# Altium footprint library Connector_PinSocket_1.27mm.PcbLib: 246 footprints (part 2 of 16)
Each footprint in its own frame and in the unit in brackets; x right, y up, seen from the top. Pads: shape width x height; smd on the part's side, far side on the other; paste and mask are expansions set on the pad; w line width, h text height; cw(c..) or ccw(c..) is an arc to the next point about the centre after c.
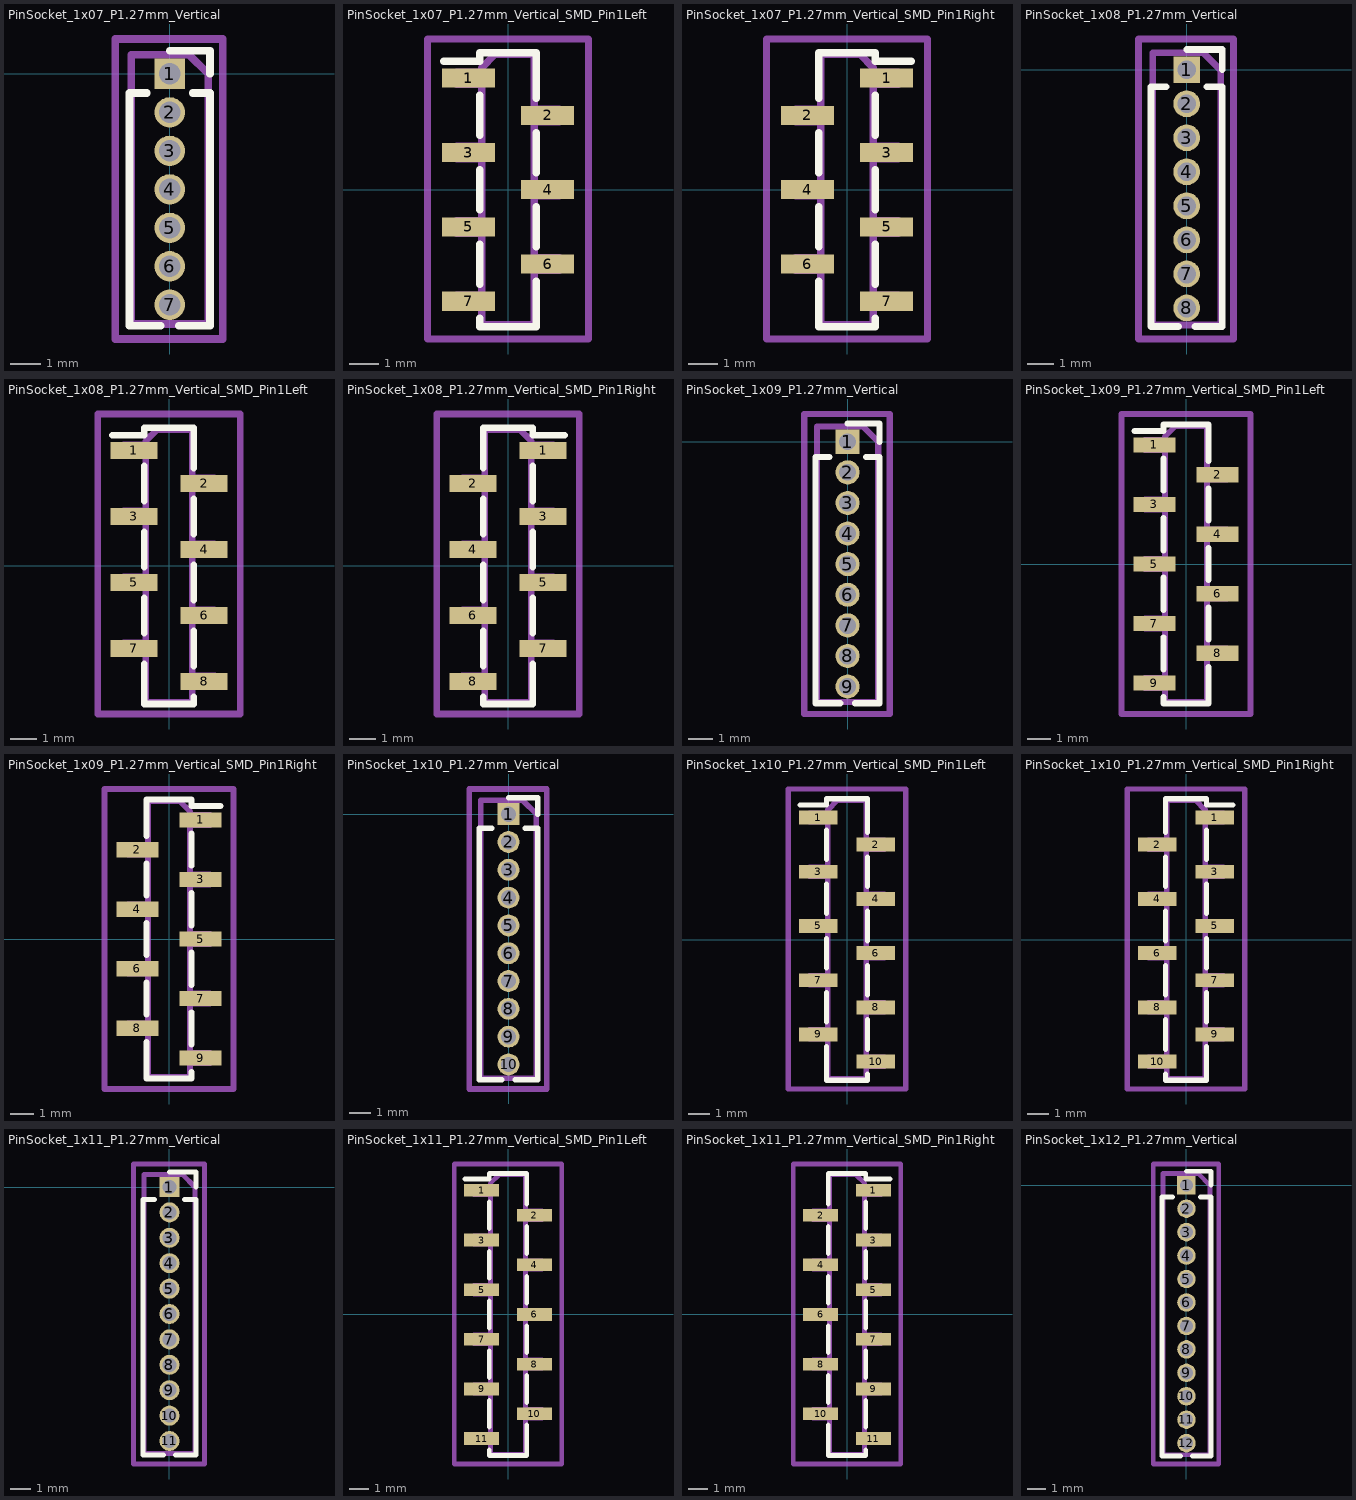
[diagram p1: the footprints below, top view; thin cyan lines are the x and y axes]

## PinSocket_1x07_P1.27mm_Vertical [mm]
pads (7):
  rect 1x1 hole 0.7: 1(0,0)
  round 1 hole 0.7: 2(0,-1.27) 3(0,-2.54) 4(0,-3.81) 5(0,-5.08) 6(0,-6.35) 7(0,-7.62)
F.SilkS:
  lines w0.254: -0.76,-0.635 -1.33,-0.635 -1.33,-8.315 -0.308,-8.315 ; 0,0.76 1.33,0.76 1.33,0 ; 0.308,-8.315 1.33,-8.315 1.33,-0.635 0.76,-0.635
Top Assembly:
  lines w0.254: -1.27,-8.255 1.27,-8.255 1.27,0 0.635,0.635 -1.27,0.635 -1.27,-8.255
  text "'.Designator'" at 0.84,-7.857 h1
Top Courtyard:
  lines w0.254: -1.8,-8.75 1.75,-8.75 1.75,1.15 -1.8,1.15 -1.8,-8.75
Top Designator:
  text ".Designator" at -7.643,-4.308 h1.52

## PinSocket_1x07_P1.27mm_Vertical_SMD_Pin1Left [mm]
pads (7):
  rect 1.8x0.65 smd: 1(-1.35,3.81) 2(1.35,2.54) 3(-1.35,1.27) 4(1.35,0) 5(-1.35,-1.27) 6(1.35,-2.54) 7(-1.35,-3.81)
F.SilkS:
  lines w0.254: -2.19,4.395 -0.96,4.395 -0.96,4.68 0.96,4.68 0.96,3.125 ; -0.96,-4.395 -0.96,-4.68 0.96,-4.68 0.96,-3.125 ; -0.96,-3.225 -0.96,-1.855 ; -0.96,-0.685 -0.96,0.685 ; -0.96,1.855 -0.96,3.225 ; 0.96,-1.955 0.96,-0.585 ; 0.96,0.585 0.96,1.955
Top Assembly:
  lines w0.254: -0.9,-4.02 -1.75,-4.02 -1.75,-3.6 -0.9,-3.6 ; -0.9,-1.48 -1.75,-1.48 -1.75,-1.06 -0.9,-1.06 ; -0.9,1.06 -1.75,1.06 -1.75,1.48 -0.9,1.48 ; -0.9,3.6 -1.75,3.6 -1.75,4.02 -0.9,4.02 ; 0.9,-2.75 1.75,-2.75 1.75,-2.33 0.9,-2.33 ; 0.9,-0.21 1.75,-0.21 1.75,0.21 0.9,0.21 ; 0.9,2.33 1.75,2.33 1.75,2.75 0.9,2.75 ; -0.9,-4.62 0.9,-4.62 0.9,4.62 -0.45,4.62 -0.9,4.17 -0.9,-4.62
  text "'.Designator'" at 0.84,-4.047 h1
Top Courtyard:
  lines w0.254: -2.75,-5.1 2.75,-5.1 2.75,5.15 -2.75,5.15 -2.75,-5.1
Top Designator:
  text ".Designator" at -7.618,-0.483 h1.52

## PinSocket_1x07_P1.27mm_Vertical_SMD_Pin1Right [mm]
pads (7):
  rect 1.8x0.65 smd: 1(1.35,3.81) 2(-1.35,2.54) 3(1.35,1.27) 4(-1.35,0) 5(1.35,-1.27) 6(-1.35,-2.54) 7(1.35,-3.81)
F.SilkS:
  lines w0.254: -0.96,-3.125 -0.96,-4.68 0.96,-4.68 0.96,-4.395 ; -0.96,-1.955 -0.96,-0.585 ; -0.96,0.585 -0.96,1.955 ; -0.96,3.125 -0.96,4.68 0.96,4.68 0.96,4.395 2.19,4.395 ; 0.96,-3.225 0.96,-1.855 ; 0.96,-0.685 0.96,0.685 ; 0.96,1.855 0.96,3.225
Top Assembly:
  lines w0.254: -0.9,-2.75 -1.75,-2.75 -1.75,-2.33 -0.9,-2.33 ; -0.9,-0.21 -1.75,-0.21 -1.75,0.21 -0.9,0.21 ; -0.9,2.33 -1.75,2.33 -1.75,2.75 -0.9,2.75 ; 0.9,-4.02 1.75,-4.02 1.75,-3.6 0.9,-3.6 ; 0.9,-1.48 1.75,-1.48 1.75,-1.06 0.9,-1.06 ; 0.9,1.06 1.75,1.06 1.75,1.48 0.9,1.48 ; 0.9,3.6 1.75,3.6 1.75,4.02 0.9,4.02 ; -0.9,-4.62 0.9,-4.62 0.9,4.17 0.45,4.62 -0.9,4.62 -0.9,-4.62
  text "'.Designator'" at 0.84,-4.047 h1
Top Courtyard:
  lines w0.254: -2.75,-5.1 2.75,-5.1 2.75,5.15 -2.75,5.15 -2.75,-5.1
Top Designator:
  text ".Designator" at -7.618,-0.483 h1.52

## PinSocket_1x08_P1.27mm_Vertical [mm]
pads (8):
  rect 1x1 hole 0.7: 1(0,0)
  round 1 hole 0.7: 2(0,-1.27) 3(0,-2.54) 4(0,-3.81) 5(0,-5.08) 6(0,-6.35) 7(0,-7.62) 8(0,-8.89)
F.SilkS:
  lines w0.254: -0.76,-0.635 -1.33,-0.635 -1.33,-9.585 -0.308,-9.585 ; 0,0.76 1.33,0.76 1.33,0 ; 0.308,-9.585 1.33,-9.585 1.33,-0.635 0.76,-0.635
Top Assembly:
  lines w0.254: -1.27,-9.525 1.27,-9.525 1.27,0 0.635,0.635 -1.27,0.635 -1.27,-9.525
  text "'.Designator'" at 0.84,-8.492 h1
Top Courtyard:
  lines w0.254: -1.8,-10.05 1.75,-10.05 1.75,1.15 -1.8,1.15 -1.8,-10.05
Top Designator:
  text ".Designator" at -7.643,-4.958 h1.52

## PinSocket_1x08_P1.27mm_Vertical_SMD_Pin1Left [mm]
pads (8):
  rect 1.8x0.65 smd: 1(-1.35,4.445) 2(1.35,3.175) 3(-1.35,1.905) 4(1.35,0.635) 5(-1.35,-0.635) 6(1.35,-1.905) 7(-1.35,-3.175) 8(1.35,-4.445)
F.SilkS:
  lines w0.254: -2.19,5.03 -0.96,5.03 -0.96,5.315 0.96,5.315 0.96,3.76 ; -0.96,-3.76 -0.96,-5.315 0.96,-5.315 0.96,-5.03 ; -0.96,-2.59 -0.96,-1.22 ; -0.96,-0.05 -0.96,1.32 ; -0.96,2.49 -0.96,3.86 ; 0.96,-3.86 0.96,-2.49 ; 0.96,-1.32 0.96,0.05 ; 0.96,1.22 0.96,2.59
Top Assembly:
  lines w0.254: -0.9,-3.385 -1.75,-3.385 -1.75,-2.965 -0.9,-2.965 ; -0.9,-0.845 -1.75,-0.845 -1.75,-0.425 -0.9,-0.425 ; -0.9,1.695 -1.75,1.695 -1.75,2.115 -0.9,2.115 ; -0.9,4.235 -1.75,4.235 -1.75,4.655 -0.9,4.655 ; 0.9,-4.655 1.75,-4.655 1.75,-4.235 0.9,-4.235 ; 0.9,-2.115 1.75,-2.115 1.75,-1.695 0.9,-1.695 ; 0.9,0.425 1.75,0.425 1.75,0.845 0.9,0.845 ; 0.9,2.965 1.75,2.965 1.75,3.385 0.9,3.385 ; -0.9,-5.255 0.9,-5.255 0.9,5.255 -0.45,5.255 -0.9,4.805 -0.9,-5.255
  text "'.Designator'" at 0.84,-4.047 h1
Top Courtyard:
  lines w0.254: -2.75,-5.7 2.75,-5.7 2.75,5.85 -2.75,5.85 -2.75,-5.7
Top Designator:
  text ".Designator" at -7.618,-0.433 h1.52

## PinSocket_1x08_P1.27mm_Vertical_SMD_Pin1Right [mm]
pads (8):
  rect 1.8x0.65 smd: 1(1.35,4.445) 2(-1.35,3.175) 3(1.35,1.905) 4(-1.35,0.635) 5(1.35,-0.635) 6(-1.35,-1.905) 7(1.35,-3.175) 8(-1.35,-4.445)
F.SilkS:
  lines w0.254: -0.96,-5.03 -0.96,-5.315 0.96,-5.315 0.96,-3.76 ; -0.96,-3.86 -0.96,-2.49 ; -0.96,-1.32 -0.96,0.05 ; -0.96,1.22 -0.96,2.59 ; -0.96,3.76 -0.96,5.315 0.96,5.315 0.96,5.03 2.19,5.03 ; 0.96,-2.59 0.96,-1.22 ; 0.96,-0.05 0.96,1.32 ; 0.96,2.49 0.96,3.86
Top Assembly:
  lines w0.254: -0.9,-4.655 -1.75,-4.655 -1.75,-4.235 -0.9,-4.235 ; -0.9,-2.115 -1.75,-2.115 -1.75,-1.695 -0.9,-1.695 ; -0.9,0.425 -1.75,0.425 -1.75,0.845 -0.9,0.845 ; -0.9,2.965 -1.75,2.965 -1.75,3.385 -0.9,3.385 ; 0.9,-3.385 1.75,-3.385 1.75,-2.965 0.9,-2.965 ; 0.9,-0.845 1.75,-0.845 1.75,-0.425 0.9,-0.425 ; 0.9,1.695 1.75,1.695 1.75,2.115 0.9,2.115 ; 0.9,4.235 1.75,4.235 1.75,4.655 0.9,4.655 ; -0.9,-5.255 0.9,-5.255 0.9,4.805 0.45,5.255 -0.9,5.255 -0.9,-5.255
  text "'.Designator'" at 0.84,-4.047 h1
Top Courtyard:
  lines w0.254: -2.75,-5.7 2.75,-5.7 2.75,5.85 -2.75,5.85 -2.75,-5.7
Top Designator:
  text ".Designator" at -7.618,-0.433 h1.52

## PinSocket_1x09_P1.27mm_Vertical [mm]
pads (9):
  rect 1x1 hole 0.7: 1(0,0)
  round 1 hole 0.7: 2(0,-1.27) 3(0,-2.54) 4(0,-3.81) 5(0,-5.08) 6(0,-6.35) 7(0,-7.62) 8(0,-8.89) 9(0,-10.16)
F.SilkS:
  lines w0.254: -0.76,-0.635 -1.33,-0.635 -1.33,-10.855 -0.308,-10.855 ; 0,0.76 1.33,0.76 1.33,0 ; 0.308,-10.855 1.33,-10.855 1.33,-0.635 0.76,-0.635
Top Assembly:
  lines w0.254: -1.27,-10.795 1.27,-10.795 1.27,0 0.635,0.635 -1.27,0.635 -1.27,-10.795
  text "'.Designator'" at 0.84,-9.127 h1
Top Courtyard:
  lines w0.254: -1.8,-11.3 1.75,-11.3 1.75,1.15 -1.8,1.15 -1.8,-11.3
Top Designator:
  text ".Designator" at -7.643,-5.583 h1.52

## PinSocket_1x09_P1.27mm_Vertical_SMD_Pin1Left [mm]
pads (9):
  rect 1.8x0.65 smd: 1(-1.35,5.08) 2(1.35,3.81) 3(-1.35,2.54) 4(1.35,1.27) 5(-1.35,0) 6(1.35,-1.27) 7(-1.35,-2.54) 8(1.35,-3.81) 9(-1.35,-5.08)
F.SilkS:
  lines w0.254: -2.19,5.665 -0.96,5.665 -0.96,5.95 0.96,5.95 0.96,4.395 ; -0.96,-5.665 -0.96,-5.95 0.96,-5.95 0.96,-4.395 ; -0.96,-4.495 -0.96,-3.125 ; -0.96,-1.955 -0.96,-0.585 ; -0.96,0.585 -0.96,1.955 ; -0.96,3.125 -0.96,4.495 ; 0.96,-3.225 0.96,-1.855 ; 0.96,-0.685 0.96,0.685 ; 0.96,1.855 0.96,3.225
Top Assembly:
  lines w0.254: -0.9,-5.29 -1.75,-5.29 -1.75,-4.87 -0.9,-4.87 ; -0.9,-2.75 -1.75,-2.75 -1.75,-2.33 -0.9,-2.33 ; -0.9,-0.21 -1.75,-0.21 -1.75,0.21 -0.9,0.21 ; -0.9,2.33 -1.75,2.33 -1.75,2.75 -0.9,2.75 ; -0.9,4.87 -1.75,4.87 -1.75,5.29 -0.9,5.29 ; 0.9,-4.02 1.75,-4.02 1.75,-3.6 0.9,-3.6 ; 0.9,-1.48 1.75,-1.48 1.75,-1.06 0.9,-1.06 ; 0.9,1.06 1.75,1.06 1.75,1.48 0.9,1.48 ; 0.9,3.6 1.75,3.6 1.75,4.02 0.9,4.02 ; -0.9,-5.89 0.9,-5.89 0.9,5.89 -0.45,5.89 -0.9,5.44 -0.9,-5.89
  text "'.Designator'" at 0.84,-4.047 h1
Top Courtyard:
  lines w0.254: -2.75,-6.4 2.75,-6.4 2.75,6.4 -2.75,6.4 -2.75,-6.4
Top Designator:
  text ".Designator" at -7.618,-0.508 h1.52

## PinSocket_1x09_P1.27mm_Vertical_SMD_Pin1Right [mm]
pads (9):
  rect 1.8x0.65 smd: 1(1.35,5.08) 2(-1.35,3.81) 3(1.35,2.54) 4(-1.35,1.27) 5(1.35,0) 6(-1.35,-1.27) 7(1.35,-2.54) 8(-1.35,-3.81) 9(1.35,-5.08)
F.SilkS:
  lines w0.254: -0.96,-4.395 -0.96,-5.95 0.96,-5.95 0.96,-5.665 ; -0.96,-3.225 -0.96,-1.855 ; -0.96,-0.685 -0.96,0.685 ; -0.96,1.855 -0.96,3.225 ; -0.96,4.395 -0.96,5.95 0.96,5.95 0.96,5.665 2.19,5.665 ; 0.96,-4.495 0.96,-3.125 ; 0.96,-1.955 0.96,-0.585 ; 0.96,0.585 0.96,1.955 ; 0.96,3.125 0.96,4.495
Top Assembly:
  lines w0.254: -0.9,-4.02 -1.75,-4.02 -1.75,-3.6 -0.9,-3.6 ; -0.9,-1.48 -1.75,-1.48 -1.75,-1.06 -0.9,-1.06 ; -0.9,1.06 -1.75,1.06 -1.75,1.48 -0.9,1.48 ; -0.9,3.6 -1.75,3.6 -1.75,4.02 -0.9,4.02 ; 0.9,-5.29 1.75,-5.29 1.75,-4.87 0.9,-4.87 ; 0.9,-2.75 1.75,-2.75 1.75,-2.33 0.9,-2.33 ; 0.9,-0.21 1.75,-0.21 1.75,0.21 0.9,0.21 ; 0.9,2.33 1.75,2.33 1.75,2.75 0.9,2.75 ; 0.9,4.87 1.75,4.87 1.75,5.29 0.9,5.29 ; -0.9,-5.89 0.9,-5.89 0.9,5.44 0.45,5.89 -0.9,5.89 -0.9,-5.89
  text "'.Designator'" at 0.84,-4.047 h1
Top Courtyard:
  lines w0.254: -2.75,-6.4 2.75,-6.4 2.75,6.4 -2.75,6.4 -2.75,-6.4
Top Designator:
  text ".Designator" at -7.618,-0.508 h1.52

## PinSocket_1x10_P1.27mm_Vertical [mm]
pads (10):
  rect 1x1 hole 0.7: 1(0,0)
  round 1 hole 0.7: 2(0,-1.27) 3(0,-2.54) 4(0,-3.81) 5(0,-5.08) 6(0,-6.35) 7(0,-7.62) 8(0,-8.89) 9(0,-10.16) 10(0,-11.43)
F.SilkS:
  lines w0.254: -0.76,-0.635 -1.33,-0.635 -1.33,-12.125 -0.308,-12.125 ; 0,0.76 1.33,0.76 1.33,0 ; 0.308,-12.125 1.33,-12.125 1.33,-0.635 0.76,-0.635
Top Assembly:
  lines w0.254: -1.27,-12.065 1.27,-12.065 1.27,0 0.635,0.635 -1.27,0.635 -1.27,-12.065
  text "'.Designator'" at 0.84,-9.762 h1
Top Courtyard:
  lines w0.254: -1.8,-12.55 1.75,-12.55 1.75,1.15 -1.8,1.15 -1.8,-12.55
Top Designator:
  text ".Designator" at -7.643,-6.208 h1.52

## PinSocket_1x10_P1.27mm_Vertical_SMD_Pin1Left [mm]
pads (10):
  rect 1.8x0.65 smd: 1(-1.35,5.715) 2(1.35,4.445) 3(-1.35,3.175) 4(1.35,1.905) 5(-1.35,0.635) 6(1.35,-0.635) 7(-1.35,-1.905) 8(1.35,-3.175) 9(-1.35,-4.445) 10(1.35,-5.715)
F.SilkS:
  lines w0.254: -2.19,6.3 -0.96,6.3 -0.96,6.585 0.96,6.585 0.96,5.03 ; -0.96,-5.03 -0.96,-6.585 0.96,-6.585 0.96,-6.3 ; -0.96,-3.86 -0.96,-2.49 ; -0.96,-1.32 -0.96,0.05 ; -0.96,1.22 -0.96,2.59 ; -0.96,3.76 -0.96,5.13 ; 0.96,-5.13 0.96,-3.76 ; 0.96,-2.59 0.96,-1.22 ; 0.96,-0.05 0.96,1.32 ; 0.96,2.49 0.96,3.86
Top Assembly:
  lines w0.254: -0.9,-4.655 -1.75,-4.655 -1.75,-4.235 -0.9,-4.235 ; -0.9,-2.115 -1.75,-2.115 -1.75,-1.695 -0.9,-1.695 ; -0.9,0.425 -1.75,0.425 -1.75,0.845 -0.9,0.845 ; -0.9,2.965 -1.75,2.965 -1.75,3.385 -0.9,3.385 ; -0.9,5.505 -1.75,5.505 -1.75,5.925 -0.9,5.925 ; 0.9,-5.925 1.75,-5.925 1.75,-5.505 0.9,-5.505 ; 0.9,-3.385 1.75,-3.385 1.75,-2.965 0.9,-2.965 ; 0.9,-0.845 1.75,-0.845 1.75,-0.425 0.9,-0.425 ; 0.9,1.695 1.75,1.695 1.75,2.115 0.9,2.115 ; 0.9,4.235 1.75,4.235 1.75,4.655 0.9,4.655 ; -0.9,-6.525 0.9,-6.525 0.9,6.525 -0.45,6.525 -0.9,6.075 -0.9,-6.525
  text "'.Designator'" at 0.84,-4.047 h1
Top Courtyard:
  lines w0.254: -2.75,-7 2.75,-7 2.75,7.05 -2.75,7.05 -2.75,-7
Top Designator:
  text ".Designator" at -7.618,-0.483 h1.52

## PinSocket_1x10_P1.27mm_Vertical_SMD_Pin1Right [mm]
pads (10):
  rect 1.8x0.65 smd: 1(1.35,5.715) 2(-1.35,4.445) 3(1.35,3.175) 4(-1.35,1.905) 5(1.35,0.635) 6(-1.35,-0.635) 7(1.35,-1.905) 8(-1.35,-3.175) 9(1.35,-4.445) 10(-1.35,-5.715)
F.SilkS:
  lines w0.254: -0.96,-6.3 -0.96,-6.585 0.96,-6.585 0.96,-5.03 ; -0.96,-5.13 -0.96,-3.76 ; -0.96,-2.59 -0.96,-1.22 ; -0.96,-0.05 -0.96,1.32 ; -0.96,2.49 -0.96,3.86 ; -0.96,5.03 -0.96,6.585 0.96,6.585 0.96,6.3 2.19,6.3 ; 0.96,-3.86 0.96,-2.49 ; 0.96,-1.32 0.96,0.05 ; 0.96,1.22 0.96,2.59 ; 0.96,3.76 0.96,5.13
Top Assembly:
  lines w0.254: -0.9,-5.925 -1.75,-5.925 -1.75,-5.505 -0.9,-5.505 ; -0.9,-3.385 -1.75,-3.385 -1.75,-2.965 -0.9,-2.965 ; -0.9,-0.845 -1.75,-0.845 -1.75,-0.425 -0.9,-0.425 ; -0.9,1.695 -1.75,1.695 -1.75,2.115 -0.9,2.115 ; -0.9,4.235 -1.75,4.235 -1.75,4.655 -0.9,4.655 ; 0.9,-4.655 1.75,-4.655 1.75,-4.235 0.9,-4.235 ; 0.9,-2.115 1.75,-2.115 1.75,-1.695 0.9,-1.695 ; 0.9,0.425 1.75,0.425 1.75,0.845 0.9,0.845 ; 0.9,2.965 1.75,2.965 1.75,3.385 0.9,3.385 ; 0.9,5.505 1.75,5.505 1.75,5.925 0.9,5.925 ; -0.9,-6.525 0.9,-6.525 0.9,6.075 0.45,6.525 -0.9,6.525 -0.9,-6.525
  text "'.Designator'" at 0.84,-4.047 h1
Top Courtyard:
  lines w0.254: -2.75,-7 2.75,-7 2.75,7.05 -2.75,7.05 -2.75,-7
Top Designator:
  text ".Designator" at -7.618,-0.483 h1.52

## PinSocket_1x11_P1.27mm_Vertical [mm]
pads (11):
  rect 1x1 hole 0.7: 1(0,0)
  round 1 hole 0.7: 2(0,-1.27) 3(0,-2.54) 4(0,-3.81) 5(0,-5.08) 6(0,-6.35) 7(0,-7.62) 8(0,-8.89) 9(0,-10.16) 10(0,-11.43) 11(0,-12.7)
F.SilkS:
  lines w0.254: -0.76,-0.635 -1.33,-0.635 -1.33,-13.395 -0.308,-13.395 ; 0,0.76 1.33,0.76 1.33,0 ; 0.308,-13.395 1.33,-13.395 1.33,-0.635 0.76,-0.635
Top Assembly:
  lines w0.254: -1.27,-13.335 1.27,-13.335 1.27,0 0.635,0.635 -1.27,0.635 -1.27,-13.335
  text "'.Designator'" at 0.84,-10.397 h1
Top Courtyard:
  lines w0.254: -1.8,-13.85 1.75,-13.85 1.75,1.15 -1.8,1.15 -1.8,-13.85
Top Designator:
  text ".Designator" at -7.643,-6.858 h1.52

## PinSocket_1x11_P1.27mm_Vertical_SMD_Pin1Left [mm]
pads (11):
  rect 1.8x0.65 smd: 1(-1.35,6.35) 2(1.35,5.08) 3(-1.35,3.81) 4(1.35,2.54) 5(-1.35,1.27) 6(1.35,0) 7(-1.35,-1.27) 8(1.35,-2.54) 9(-1.35,-3.81) 10(1.35,-5.08) 11(-1.35,-6.35)
F.SilkS:
  lines w0.254: -2.19,6.935 -0.96,6.935 -0.96,7.22 0.96,7.22 0.96,5.665 ; -0.96,-6.935 -0.96,-7.22 0.96,-7.22 0.96,-5.665 ; -0.96,-5.765 -0.96,-4.395 ; -0.96,-3.225 -0.96,-1.855 ; -0.96,-0.685 -0.96,0.685 ; -0.96,1.855 -0.96,3.225 ; -0.96,4.395 -0.96,5.765 ; 0.96,-4.495 0.96,-3.125 ; 0.96,-1.955 0.96,-0.585 ; 0.96,0.585 0.96,1.955 ; 0.96,3.125 0.96,4.495
Top Assembly:
  lines w0.254: -0.9,-6.56 -1.75,-6.56 -1.75,-6.14 -0.9,-6.14 ; -0.9,-4.02 -1.75,-4.02 -1.75,-3.6 -0.9,-3.6 ; -0.9,-1.48 -1.75,-1.48 -1.75,-1.06 -0.9,-1.06 ; -0.9,1.06 -1.75,1.06 -1.75,1.48 -0.9,1.48 ; -0.9,3.6 -1.75,3.6 -1.75,4.02 -0.9,4.02 ; -0.9,6.14 -1.75,6.14 -1.75,6.56 -0.9,6.56 ; 0.9,-5.29 1.75,-5.29 1.75,-4.87 0.9,-4.87 ; 0.9,-2.75 1.75,-2.75 1.75,-2.33 0.9,-2.33 ; 0.9,-0.21 1.75,-0.21 1.75,0.21 0.9,0.21 ; 0.9,2.33 1.75,2.33 1.75,2.75 0.9,2.75 ; 0.9,4.87 1.75,4.87 1.75,5.29 0.9,5.29 ; -0.9,-7.16 0.9,-7.16 0.9,7.16 -0.45,7.16 -0.9,6.71 -0.9,-7.16
  text "'.Designator'" at 0.84,-4.047 h1
Top Courtyard:
  lines w0.254: -2.75,-7.65 2.75,-7.65 2.75,7.7 -2.75,7.7 -2.75,-7.65
Top Designator:
  text ".Designator" at -7.618,-0.483 h1.52

## PinSocket_1x11_P1.27mm_Vertical_SMD_Pin1Right [mm]
pads (11):
  rect 1.8x0.65 smd: 1(1.35,6.35) 2(-1.35,5.08) 3(1.35,3.81) 4(-1.35,2.54) 5(1.35,1.27) 6(-1.35,0) 7(1.35,-1.27) 8(-1.35,-2.54) 9(1.35,-3.81) 10(-1.35,-5.08) 11(1.35,-6.35)
F.SilkS:
  lines w0.254: -0.96,-5.665 -0.96,-7.22 0.96,-7.22 0.96,-6.935 ; -0.96,-4.495 -0.96,-3.125 ; -0.96,-1.955 -0.96,-0.585 ; -0.96,0.585 -0.96,1.955 ; -0.96,3.125 -0.96,4.495 ; -0.96,5.665 -0.96,7.22 0.96,7.22 0.96,6.935 2.19,6.935 ; 0.96,-5.765 0.96,-4.395 ; 0.96,-3.225 0.96,-1.855 ; 0.96,-0.685 0.96,0.685 ; 0.96,1.855 0.96,3.225 ; 0.96,4.395 0.96,5.765
Top Assembly:
  lines w0.254: -0.9,-5.29 -1.75,-5.29 -1.75,-4.87 -0.9,-4.87 ; -0.9,-2.75 -1.75,-2.75 -1.75,-2.33 -0.9,-2.33 ; -0.9,-0.21 -1.75,-0.21 -1.75,0.21 -0.9,0.21 ; -0.9,2.33 -1.75,2.33 -1.75,2.75 -0.9,2.75 ; -0.9,4.87 -1.75,4.87 -1.75,5.29 -0.9,5.29 ; 0.9,-6.56 1.75,-6.56 1.75,-6.14 0.9,-6.14 ; 0.9,-4.02 1.75,-4.02 1.75,-3.6 0.9,-3.6 ; 0.9,-1.48 1.75,-1.48 1.75,-1.06 0.9,-1.06 ; 0.9,1.06 1.75,1.06 1.75,1.48 0.9,1.48 ; 0.9,3.6 1.75,3.6 1.75,4.02 0.9,4.02 ; 0.9,6.14 1.75,6.14 1.75,6.56 0.9,6.56 ; -0.9,-7.16 0.9,-7.16 0.9,6.71 0.45,7.16 -0.9,7.16 -0.9,-7.16
  text "'.Designator'" at 0.84,-4.047 h1
Top Courtyard:
  lines w0.254: -2.75,-7.65 2.75,-7.65 2.75,7.7 -2.75,7.7 -2.75,-7.65
Top Designator:
  text ".Designator" at -7.618,-0.483 h1.52

## PinSocket_1x12_P1.27mm_Vertical [mm]
pads (12):
  rect 1x1 hole 0.7: 1(0,0)
  round 1 hole 0.7: 2(0,-1.27) 3(0,-2.54) 4(0,-3.81) 5(0,-5.08) 6(0,-6.35) 7(0,-7.62) 8(0,-8.89) 9(0,-10.16) 10(0,-11.43) 11(0,-12.7) 12(0,-13.97)
F.SilkS:
  lines w0.254: -0.76,-0.635 -1.33,-0.635 -1.33,-14.665 -0.308,-14.665 ; 0,0.76 1.33,0.76 1.33,0 ; 0.308,-14.665 1.33,-14.665 1.33,-0.635 0.76,-0.635
Top Assembly:
  lines w0.254: -1.27,-14.605 1.27,-14.605 1.27,0 0.635,0.635 -1.27,0.635 -1.27,-14.605
  text "'.Designator'" at 0.84,-11.032 h1
Top Courtyard:
  lines w0.254: -1.8,-15.1 1.75,-15.1 1.75,1.15 -1.8,1.15 -1.8,-15.1
Top Designator:
  text ".Designator" at -7.643,-7.483 h1.52